# EAGLE library part USB-FCK002A (library usb)
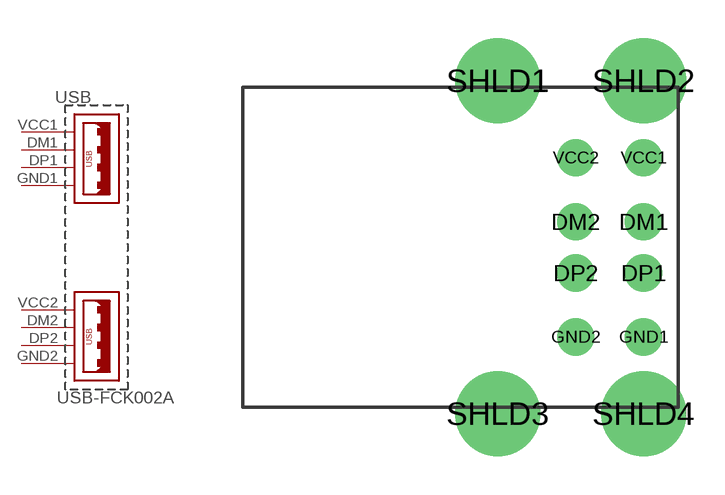
[diagram p1: symbol with the pads of FCK002A; footprint FCK002A]

Designator prefix USB

## USB-FCK002A  [FCK002A]
DM1  2
DM2  6
DP1  3
DP2  7
GND1  4  pwr
GND2  8  pwr
VCC1  1
VCC2  5

## Footprint FCK002A (pad centres in mm)
drill 0.95: DM1 0,1; DM2 -2.65,1; DP1 0,-1; DP2 -2.65,-1; GND1 0,-3.5; GND2 -2.65,-3.5; VCC1 0,3.5; VCC2 -2.65,3.5
drill 2.3: SHLD1 -5.7,6.5; SHLD2 0,6.5; SHLD3 -5.7,-6.5; SHLD4 0,-6.5